# EAGLE library part LMX2572RHAT (library LMX2572RHAT)
6.4-GHz low-power wideband RF synthesizer Source: Datasheet <http://www.ti.com/lit/gpn/lmx2572>
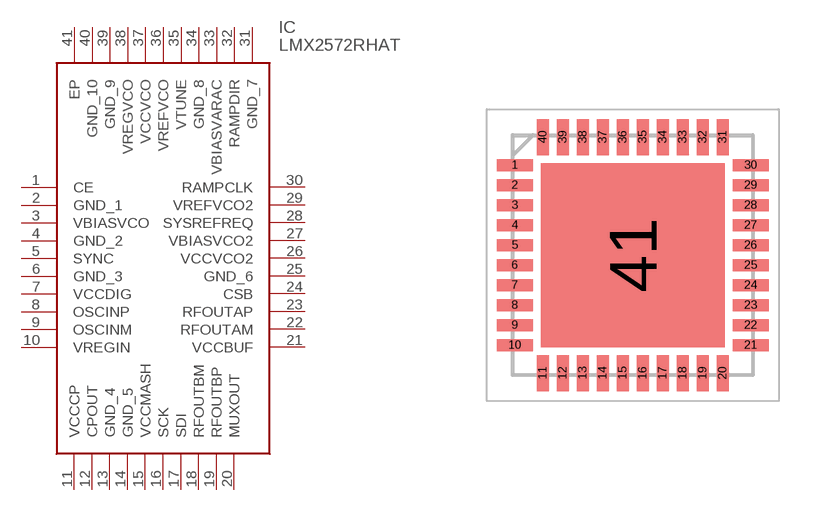
[diagram p0: symbol with the pads of QFN50P600X600X100-41N; footprint QFN50P600X600X100-41N]

Designator prefix IC

## LMX2572RHAT (Description: 6.4-GHz low-power wideband RF synthesizer; Height: 1mm; Manufacturer_Name: Texas Instruments; Manufacturer_Part_Number: LMX2572RHAT; Mouser_Part_Number: 595-LMX2572RHAT; Mouser_Price-Stock: https://www.mouser.co.uk/ProductDetail/Texas-Instruments/LMX2572RHAT?qs=BZBei1rCqCAcV8D5kfnwXg%3D%3D)  [QFN50P600X600X100-41N]
1  CE
2  GND_1
3  VBIASVCO
4  GND_2
5  SYNC
6  GND_3
7  VCCDIG
8  OSCINP
9  OSCINM
10  VREGIN
11  VCCCP
12  CPOUT
13  GND_4
14  GND_5
15  VCCMASH
16  SCK
17  SDI
18  RFOUTBM
19  RFOUTBP
20  MUXOUT
21  VCCBUF
22  RFOUTAM
23  RFOUTAP
24  CSB
25  GND_6
26  VCCVCO2
27  VBIASVCO2
28  SYSREFREQ
29  VREFVCO2
30  RAMPCLK
31  GND_7
32  RAMPDIR
33  VBIASVARAC
34  GND_8
35  VTUNE
36  VREFVCO
37  VCCVCO
38  VREGVCO
39  GND_9
40  GND_10
41  EP

## Footprint QFN50P600X600X100-41N (pad centres in mm)
LMX2572RHAT
smd 0.9 x 0.3: 1 -2.95,2.25; 2 -2.95,1.75; 3 -2.95,1.25; 4 -2.95,0.75; 5 -2.95,0.25; 6 -2.95,-0.25; 7 -2.95,-0.75; 8 -2.95,-1.25; 9 -2.95,-1.75; 10 -2.95,-2.25; 21 2.95,-2.25; 22 2.95,-1.75; 23 2.95,-1.25; 24 2.95,-0.75; 25 2.95,-0.25; 26 2.95,0.25; 27 2.95,0.75; 28 2.95,1.25; 29 2.95,1.75; 30 2.95,2.25
smd 0.3 x 0.9: 11 -2.25,-2.95; 12 -1.75,-2.95; 13 -1.25,-2.95; 14 -0.75,-2.95; 15 -0.25,-2.95; 16 0.25,-2.95; 17 0.75,-2.95; 18 1.25,-2.95; 19 1.75,-2.95; 20 2.25,-2.95; 31 2.25,2.95; 32 1.75,2.95; 33 1.25,2.95; 34 0.75,2.95; 35 0.25,2.95; 36 -0.25,2.95; 37 -0.75,2.95; 38 -1.25,2.95; 39 -1.75,2.95; 40 -2.25,2.95
smd 4.6 x 4.6: 41 0,0